# EAGLE library part ATSAMD09C (library Atmel)
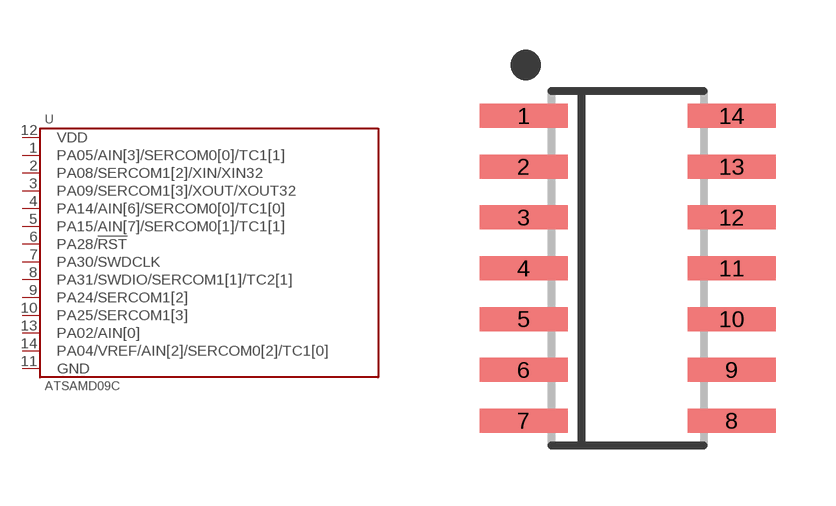
[diagram p18: symbol with the pads of SOIC-14; footprint SOIC-14]

Designator prefix U

## ATSAMD09C13A-SSUT  [SOIC-14]
1  PA05/AIN[3]/SERCOM0[0]/TC1[1]
2  PA08/SERCOM1[2]/XIN/XIN32
3  PA09/SERCOM1[3]/XOUT/XOUT32
4  PA14/AIN[6]/SERCOM0[0]/TC1[0]
5  PA15/AIN[7]/SERCOM0[1]/TC1[1]
6  PA28/!RST
7  PA30/SWDCLK
8  PA31/SWDIO/SERCOM1[1]/TC2[1]
9  PA24/SERCOM1[2]
10  PA25/SERCOM1[3]
11  GND
12  VDD
13  PA02/AIN[0]
14  PA04/VREF/AIN[2]/SERCOM0[2]/TC1[0]

## Footprint SOIC-14 (pad centres in mm)
smd 2.2 x 0.6: 1 -2.6,3.81; 2 -2.6,2.54; 3 -2.6,1.27; 4 -2.6,0; 5 -2.6,-1.27; 6 -2.6,-2.54; 7 -2.6,-3.81; 8 2.6,-3.81; 9 2.6,-2.54; 10 2.6,-1.27; 11 2.6,0; 12 2.6,1.27; 13 2.6,2.54; 14 2.6,3.81